# Altium schematic symbol library SCH - POWER - LINEAR VREG - TI LM117HVK-QML_1.SchLib: 1 symbol
Pins are listed as number, name and electrical type; pins without a type are passive.

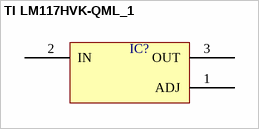
[diagram p0: symbol TI LM117HVK-QML_1]

## TI LM117HVK-QML_1
designator IC?  (value not drawn)
pins: 1 ADJ, 2 IN, 3 OUT